# Altium footprint library Connector_Molex.PcbLib: 815 footprints (part 21 of 51)
Each footprint in its own frame and in the unit in brackets; x right, y up, seen from the top. Pads: shape width x height; smd on the part's side, far side on the other; paste and mask are expansions set on the pad; w line width, h text height; cw(c..) or ccw(c..) is an arc to the next point about the centre after c.
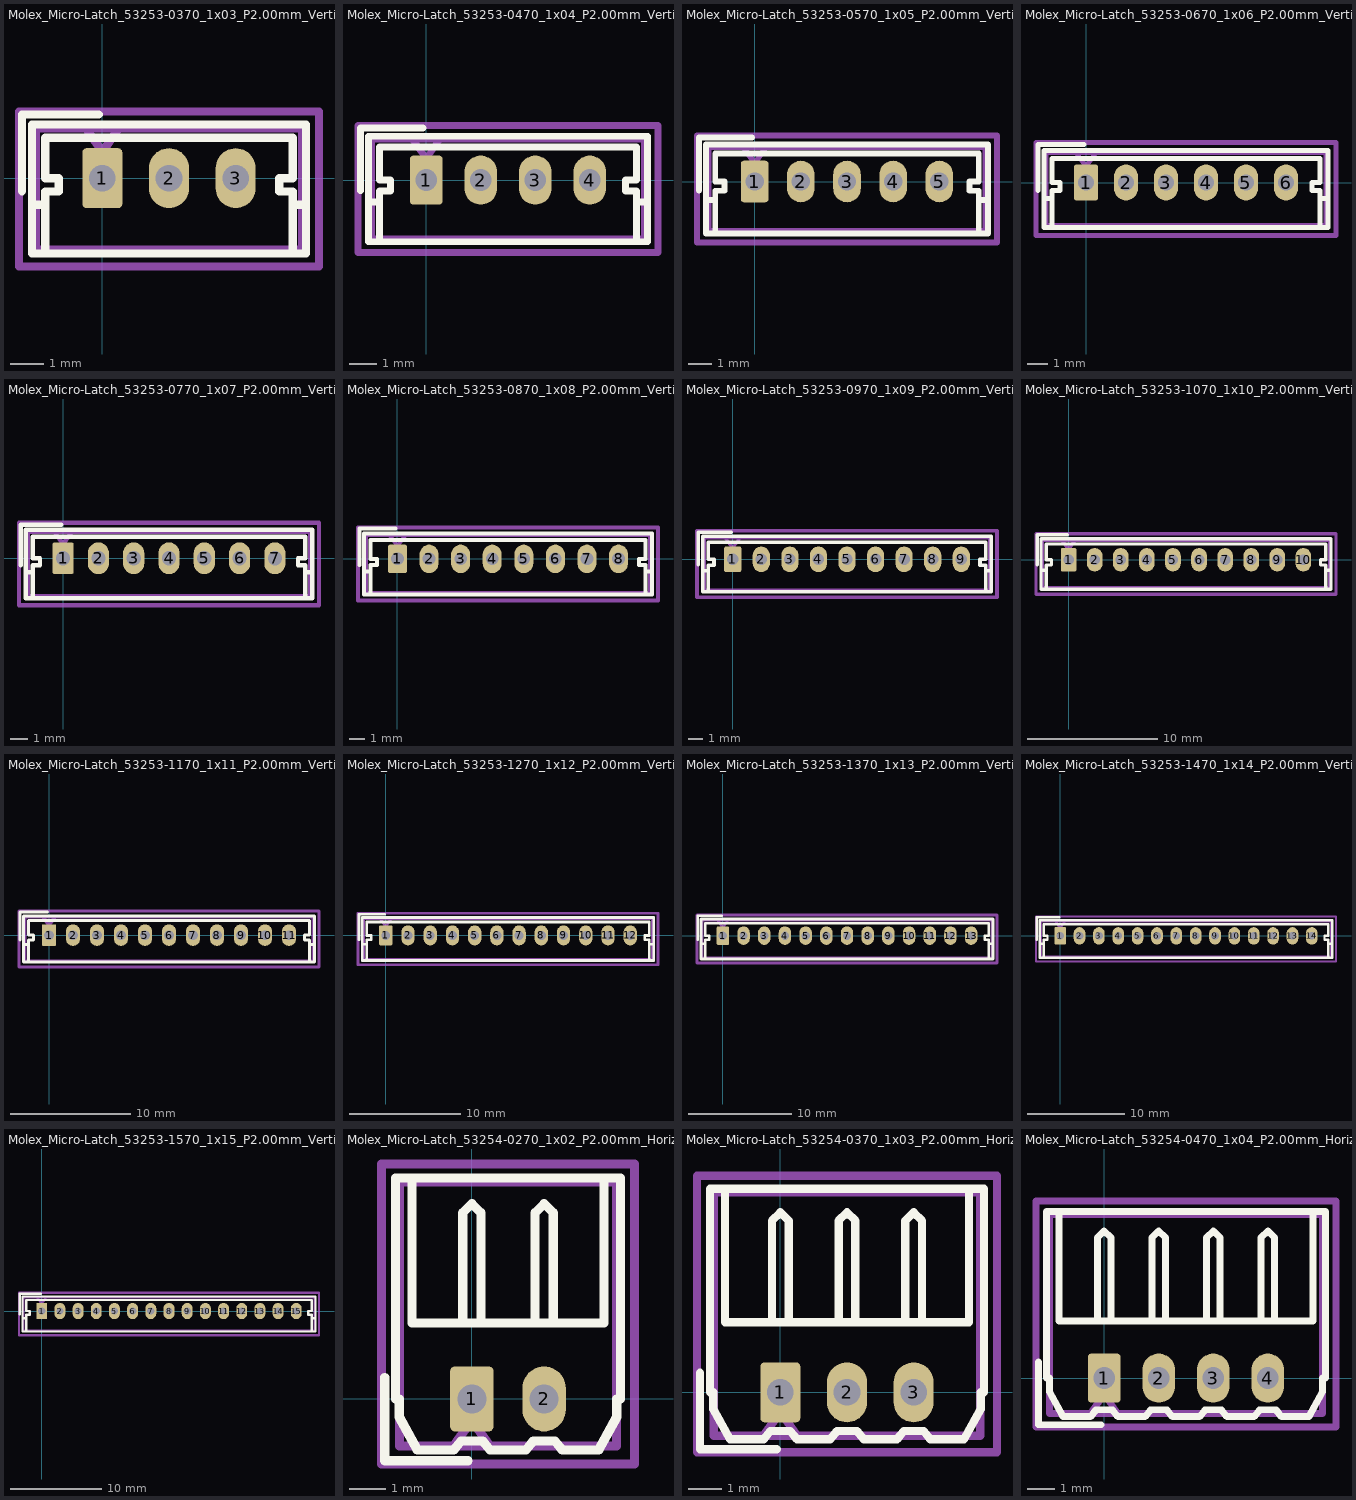
[diagram p20: the footprints below, top view; thin cyan lines are the x and y axes]

## Molex_Micro-Latch_53253-0370_1x03_P2.00mm_Vertical [mm]
pads (3):
  rrect21% 1.2x1.8 hole 0.8: 1(0,0)
  rrect100% 1.2x1.8 hole 0.8: 2(2,0) 3(4,0)
F.SilkS:
  lines w0.254: -2.41,-0.39 -2.41,1.91 -0.11,1.91 ; -2.11,-0.8 -1.71,-0.8 ; -1.71,-2.26 -1.71,-0.4 -1.31,-0.4 -1.31,0 -1.71,0 -1.71,1.21 2,1.21 5.71,1.21 5.71,0 5.31,0 5.31,-0.4 5.71,-0.4 5.71,-2.26 ; 5.71,-0.8 6.11,-0.8 ; -2.11,-2.26 6.11,-2.26 6.11,1.61 -2.11,1.61 -2.11,-2.26
Top Assembly:
  lines w0.254: -0.5,1.5 0,0.793 0.5,1.5 ; -2,-2.15 6,-2.15 6,1.5 -2,1.5 -2,-2.15
  text "'.Designator'" at -2.047,-2.29 h1
Top Courtyard:
  lines w0.254: -2.5,-2.65 6.5,-2.65 6.5,2 -2.5,2 -2.5,-2.65
Top Designator:
  text ".Designator" at -5.618,-0.833 h1.52

## Molex_Micro-Latch_53253-0470_1x04_P2.00mm_Vertical [mm]
pads (4):
  rrect21% 1.2x1.8 hole 0.8: 1(0,0)
  rrect100% 1.2x1.8 hole 0.8: 2(2,0) 3(4,0) 4(6,0)
F.SilkS:
  lines w0.254: -2.41,-0.39 -2.41,1.91 -0.11,1.91 ; -2.11,-0.8 -1.71,-0.8 ; -1.71,-2.26 -1.71,-0.4 -1.31,-0.4 -1.31,0 -1.71,0 -1.71,1.21 3,1.21 7.71,1.21 7.71,0 7.31,0 7.31,-0.4 7.71,-0.4 7.71,-2.26 ; 7.71,-0.8 8.11,-0.8 ; -2.11,-2.26 8.11,-2.26 8.11,1.61 -2.11,1.61 -2.11,-2.26
Top Assembly:
  lines w0.254: -0.5,1.5 0,0.793 0.5,1.5 ; -2,-2.15 8,-2.15 8,1.5 -2,1.5 -2,-2.15
  text "'.Designator'" at -1.047,-2.29 h1
Top Courtyard:
  lines w0.254: -2.5,-2.65 8.5,-2.65 8.5,2 -2.5,2 -2.5,-2.65
Top Designator:
  text ".Designator" at -4.618,-0.833 h1.52

## Molex_Micro-Latch_53253-0570_1x05_P2.00mm_Vertical [mm]
pads (5):
  rrect21% 1.2x1.8 hole 0.8: 1(0,0)
  rrect100% 1.2x1.8 hole 0.8: 2(2,0) 3(4,0) 4(6,0) 5(8,0)
F.SilkS:
  lines w0.254: -2.41,-0.39 -2.41,1.91 -0.11,1.91 ; -2.11,-0.8 -1.71,-0.8 ; -1.71,-2.26 -1.71,-0.4 -1.31,-0.4 -1.31,0 -1.71,0 -1.71,1.21 4,1.21 9.71,1.21 9.71,0 9.31,0 9.31,-0.4 9.71,-0.4 9.71,-2.26 ; 9.71,-0.8 10.11,-0.8 ; -2.11,-2.26 10.11,-2.26 10.11,1.61 -2.11,1.61 -2.11,-2.26
Top Assembly:
  lines w0.254: -0.5,1.5 0,0.793 0.5,1.5 ; -2,-2.15 10,-2.15 10,1.5 -2,1.5 -2,-2.15
  text "'.Designator'" at -0.047,-2.29 h1
Top Courtyard:
  lines w0.254: -2.5,-2.65 10.5,-2.65 10.5,2 -2.5,2 -2.5,-2.65
Top Designator:
  text ".Designator" at -3.618,-0.833 h1.52

## Molex_Micro-Latch_53253-0670_1x06_P2.00mm_Vertical [mm]
pads (6):
  rrect21% 1.2x1.8 hole 0.8: 1(0,0)
  rrect100% 1.2x1.8 hole 0.8: 2(2,0) 3(4,0) 4(6,0) 5(8,0) 6(10,0)
F.SilkS:
  lines w0.254: -2.41,-0.39 -2.41,1.91 -0.11,1.91 ; -2.11,-0.8 -1.71,-0.8 ; -1.71,-2.26 -1.71,-0.4 -1.31,-0.4 -1.31,0 -1.71,0 -1.71,1.21 5,1.21 11.71,1.21 11.71,0 11.31,0 11.31,-0.4 11.71,-0.4 11.71,-2.26 ; 11.71,-0.8 12.11,-0.8 ; -2.11,-2.26 12.11,-2.26 12.11,1.61 -2.11,1.61 -2.11,-2.26
Top Assembly:
  lines w0.254: -0.5,1.5 0,0.793 0.5,1.5 ; -2,-2.15 12,-2.15 12,1.5 -2,1.5 -2,-2.15
  text "'.Designator'" at 0.953,-2.29 h1
Top Courtyard:
  lines w0.254: -2.5,-2.65 12.5,-2.65 12.5,2 -2.5,2 -2.5,-2.65
Top Designator:
  text ".Designator" at -2.618,-0.833 h1.52

## Molex_Micro-Latch_53253-0770_1x07_P2.00mm_Vertical [mm]
pads (7):
  rrect21% 1.2x1.8 hole 0.8: 1(0,0)
  rrect100% 1.2x1.8 hole 0.8: 2(2,0) 3(4,0) 4(6,0) 5(8,0) 6(10,0) 7(12,0)
F.SilkS:
  lines w0.254: -2.41,-0.39 -2.41,1.91 -0.11,1.91 ; -2.11,-0.8 -1.71,-0.8 ; -1.71,-2.26 -1.71,-0.4 -1.31,-0.4 -1.31,0 -1.71,0 -1.71,1.21 6,1.21 13.71,1.21 13.71,0 13.31,0 13.31,-0.4 13.71,-0.4 13.71,-2.26 ; 13.71,-0.8 14.11,-0.8 ; -2.11,-2.26 14.11,-2.26 14.11,1.61 -2.11,1.61 -2.11,-2.26
Top Assembly:
  lines w0.254: -0.5,1.5 0,0.793 0.5,1.5 ; -2,-2.15 14,-2.15 14,1.5 -2,1.5 -2,-2.15
  text "'.Designator'" at 1.953,-2.29 h1
Top Courtyard:
  lines w0.254: -2.5,-2.65 14.5,-2.65 14.5,2 -2.5,2 -2.5,-2.65
Top Designator:
  text ".Designator" at -1.618,-0.833 h1.52

## Molex_Micro-Latch_53253-0870_1x08_P2.00mm_Vertical [mm]
pads (8):
  rrect21% 1.2x1.8 hole 0.8: 1(0,0)
  rrect100% 1.2x1.8 hole 0.8: 2(2,0) 3(4,0) 4(6,0) 5(8,0) 6(10,0) 7(12,0) 8(14,0)
F.SilkS:
  lines w0.254: -2.41,-0.39 -2.41,1.91 -0.11,1.91 ; -2.11,-0.8 -1.71,-0.8 ; -1.71,-2.26 -1.71,-0.4 -1.31,-0.4 -1.31,0 -1.71,0 -1.71,1.21 7,1.21 15.71,1.21 15.71,0 15.31,0 15.31,-0.4 15.71,-0.4 15.71,-2.26 ; 15.71,-0.8 16.11,-0.8 ; -2.11,-2.26 16.11,-2.26 16.11,1.61 -2.11,1.61 -2.11,-2.26
Top Assembly:
  lines w0.254: -0.5,1.5 0,0.793 0.5,1.5 ; -2,-2.15 16,-2.15 16,1.5 -2,1.5 -2,-2.15
  text "'.Designator'" at 2.953,-2.29 h1
Top Courtyard:
  lines w0.254: -2.5,-2.65 16.5,-2.65 16.5,2 -2.5,2 -2.5,-2.65
Top Designator:
  text ".Designator" at -0.618,-0.833 h1.52

## Molex_Micro-Latch_53253-0970_1x09_P2.00mm_Vertical [mm]
pads (9):
  rrect21% 1.2x1.8 hole 0.8: 1(0,0)
  rrect100% 1.2x1.8 hole 0.8: 2(2,0) 3(4,0) 4(6,0) 5(8,0) 6(10,0) 7(12,0) 8(14,0) 9(16,0)
F.SilkS:
  lines w0.254: -2.41,-0.39 -2.41,1.91 -0.11,1.91 ; -2.11,-0.8 -1.71,-0.8 ; -1.71,-2.26 -1.71,-0.4 -1.31,-0.4 -1.31,0 -1.71,0 -1.71,1.21 8,1.21 17.71,1.21 17.71,0 17.31,0 17.31,-0.4 17.71,-0.4 17.71,-2.26 ; 17.71,-0.8 18.11,-0.8 ; -2.11,-2.26 18.11,-2.26 18.11,1.61 -2.11,1.61 -2.11,-2.26
Top Assembly:
  lines w0.254: -0.5,1.5 0,0.793 0.5,1.5 ; -2,-2.15 18,-2.15 18,1.5 -2,1.5 -2,-2.15
  text "'.Designator'" at 3.953,-2.29 h1
Top Courtyard:
  lines w0.254: -2.5,-2.65 18.5,-2.65 18.5,2 -2.5,2 -2.5,-2.65
Top Designator:
  text ".Designator" at 0.382,-0.833 h1.52

## Molex_Micro-Latch_53253-1070_1x10_P2.00mm_Vertical [mm]
pads (10):
  rrect21% 1.2x1.8 hole 0.8: 1(0,0)
  rrect100% 1.2x1.8 hole 0.8: 2(2,0) 3(4,0) 4(6,0) 5(8,0) 6(10,0) 7(12,0) 8(14,0) 9(16,0) 10(18,0)
F.SilkS:
  lines w0.254: -2.41,-0.39 -2.41,1.91 -0.11,1.91 ; -2.11,-0.8 -1.71,-0.8 ; -1.71,-2.26 -1.71,-0.4 -1.31,-0.4 -1.31,0 -1.71,0 -1.71,1.21 9,1.21 19.71,1.21 19.71,0 19.31,0 19.31,-0.4 19.71,-0.4 19.71,-2.26 ; 19.71,-0.8 20.11,-0.8 ; -2.11,-2.26 20.11,-2.26 20.11,1.61 -2.11,1.61 -2.11,-2.26
Top Assembly:
  lines w0.254: -0.5,1.5 0,0.793 0.5,1.5 ; -2,-2.15 20,-2.15 20,1.5 -2,1.5 -2,-2.15
  text "'.Designator'" at 4.953,-2.29 h1
Top Courtyard:
  lines w0.254: -2.5,-2.65 20.5,-2.65 20.5,2 -2.5,2 -2.5,-2.65
Top Designator:
  text ".Designator" at 1.382,-0.833 h1.52

## Molex_Micro-Latch_53253-1170_1x11_P2.00mm_Vertical [mm]
pads (11):
  rrect21% 1.2x1.8 hole 0.8: 1(0,0)
  rrect100% 1.2x1.8 hole 0.8: 2(2,0) 3(4,0) 4(6,0) 5(8,0) 6(10,0) 7(12,0) 8(14,0) 9(16,0) 10(18,0) 11(20,0)
F.SilkS:
  lines w0.254: -2.41,-0.39 -2.41,1.91 -0.11,1.91 ; -2.11,-0.8 -1.71,-0.8 ; -1.71,-2.26 -1.71,-0.4 -1.31,-0.4 -1.31,0 -1.71,0 -1.71,1.21 10,1.21 21.71,1.21 21.71,0 21.31,0 21.31,-0.4 21.71,-0.4 21.71,-2.26 ; 21.71,-0.8 22.11,-0.8 ; -2.11,-2.26 22.11,-2.26 22.11,1.61 -2.11,1.61 -2.11,-2.26
Top Assembly:
  lines w0.254: -0.5,1.5 0,0.793 0.5,1.5 ; -2,-2.15 22,-2.15 22,1.5 -2,1.5 -2,-2.15
  text "'.Designator'" at 5.953,-2.29 h1
Top Courtyard:
  lines w0.254: -2.5,-2.65 22.5,-2.65 22.5,2 -2.5,2 -2.5,-2.65
Top Designator:
  text ".Designator" at 2.382,-0.833 h1.52

## Molex_Micro-Latch_53253-1270_1x12_P2.00mm_Vertical [mm]
pads (12):
  rrect21% 1.2x1.8 hole 0.8: 1(0,0)
  rrect100% 1.2x1.8 hole 0.8: 2(2,0) 3(4,0) 4(6,0) 5(8,0) 6(10,0) 7(12,0) 8(14,0) 9(16,0) 10(18,0) 11(20,0) 12(22,0)
F.SilkS:
  lines w0.254: -2.41,-0.39 -2.41,1.91 -0.11,1.91 ; -2.11,-0.8 -1.71,-0.8 ; -1.71,-2.26 -1.71,-0.4 -1.31,-0.4 -1.31,0 -1.71,0 -1.71,1.21 11,1.21 23.71,1.21 23.71,0 23.31,0 23.31,-0.4 23.71,-0.4 23.71,-2.26 ; 23.71,-0.8 24.11,-0.8 ; -2.11,-2.26 24.11,-2.26 24.11,1.61 -2.11,1.61 -2.11,-2.26
Top Assembly:
  lines w0.254: -0.5,1.5 0,0.793 0.5,1.5 ; -2,-2.15 24,-2.15 24,1.5 -2,1.5 -2,-2.15
  text "'.Designator'" at 6.953,-2.29 h1
Top Courtyard:
  lines w0.254: -2.5,-2.65 24.5,-2.65 24.5,2 -2.5,2 -2.5,-2.65
Top Designator:
  text ".Designator" at 3.382,-0.833 h1.52

## Molex_Micro-Latch_53253-1370_1x13_P2.00mm_Vertical [mm]
pads (13):
  rrect21% 1.2x1.8 hole 0.8: 1(0,0)
  rrect100% 1.2x1.8 hole 0.8: 2(2,0) 3(4,0) 4(6,0) 5(8,0) 6(10,0) 7(12,0) 8(14,0) 9(16,0) 10(18,0) 11(20,0) 12(22,0) 13(24,0)
F.SilkS:
  lines w0.254: -2.41,-0.39 -2.41,1.91 -0.11,1.91 ; -2.11,-0.8 -1.71,-0.8 ; -1.71,-2.26 -1.71,-0.4 -1.31,-0.4 -1.31,0 -1.71,0 -1.71,1.21 12,1.21 25.71,1.21 25.71,0 25.31,0 25.31,-0.4 25.71,-0.4 25.71,-2.26 ; 25.71,-0.8 26.11,-0.8 ; -2.11,-2.26 26.11,-2.26 26.11,1.61 -2.11,1.61 -2.11,-2.26
Top Assembly:
  lines w0.254: -0.5,1.5 0,0.793 0.5,1.5 ; -2,-2.15 26,-2.15 26,1.5 -2,1.5 -2,-2.15
  text "'.Designator'" at 7.953,-2.29 h1
Top Courtyard:
  lines w0.254: -2.5,-2.65 26.5,-2.65 26.5,2 -2.5,2 -2.5,-2.65
Top Designator:
  text ".Designator" at 4.382,-0.833 h1.52

## Molex_Micro-Latch_53253-1470_1x14_P2.00mm_Vertical [mm]
pads (14):
  rrect21% 1.2x1.8 hole 0.8: 1(0,0)
  rrect100% 1.2x1.8 hole 0.8: 2(2,0) 3(4,0) 4(6,0) 5(8,0) 6(10,0) 7(12,0) 8(14,0) 9(16,0) 10(18,0) 11(20,0) 12(22,0) 13(24,0) 14(26,0)
F.SilkS:
  lines w0.254: -2.41,-0.39 -2.41,1.91 -0.11,1.91 ; -2.11,-0.8 -1.71,-0.8 ; -1.71,-2.26 -1.71,-0.4 -1.31,-0.4 -1.31,0 -1.71,0 -1.71,1.21 13,1.21 27.71,1.21 27.71,0 27.31,0 27.31,-0.4 27.71,-0.4 27.71,-2.26 ; 27.71,-0.8 28.11,-0.8 ; -2.11,-2.26 28.11,-2.26 28.11,1.61 -2.11,1.61 -2.11,-2.26
Top Assembly:
  lines w0.254: -0.5,1.5 0,0.793 0.5,1.5 ; -2,-2.15 28,-2.15 28,1.5 -2,1.5 -2,-2.15
  text "'.Designator'" at 8.953,-2.29 h1
Top Courtyard:
  lines w0.254: -2.5,-2.65 28.5,-2.65 28.5,2 -2.5,2 -2.5,-2.65
Top Designator:
  text ".Designator" at 5.382,-0.833 h1.52

## Molex_Micro-Latch_53253-1570_1x15_P2.00mm_Vertical [mm]
pads (15):
  rrect21% 1.2x1.8 hole 0.8: 1(0,0)
  rrect100% 1.2x1.8 hole 0.8: 2(2,0) 3(4,0) 4(6,0) 5(8,0) 6(10,0) 7(12,0) 8(14,0) 9(16,0) 10(18,0) 11(20,0) 12(22,0) 13(24,0) 14(26,0) 15(28,0)
F.SilkS:
  lines w0.254: -2.41,-0.39 -2.41,1.91 -0.11,1.91 ; -2.11,-0.8 -1.71,-0.8 ; -1.71,-2.26 -1.71,-0.4 -1.31,-0.4 -1.31,0 -1.71,0 -1.71,1.21 14,1.21 29.71,1.21 29.71,0 29.31,0 29.31,-0.4 29.71,-0.4 29.71,-2.26 ; 29.71,-0.8 30.11,-0.8 ; -2.11,-2.26 30.11,-2.26 30.11,1.61 -2.11,1.61 -2.11,-2.26
Top Assembly:
  lines w0.254: -0.5,1.5 0,0.793 0.5,1.5 ; -2,-2.15 30,-2.15 30,1.5 -2,1.5 -2,-2.15
  text "'.Designator'" at 9.953,-2.29 h1
Top Courtyard:
  lines w0.254: -2.5,-2.65 30.5,-2.65 30.5,2 -2.5,2 -2.5,-2.65
Top Designator:
  text ".Designator" at 6.382,-0.833 h1.52

## Molex_Micro-Latch_53254-0270_1x02_P2.00mm_Horizontal [mm]
pads (2):
  rrect21% 1.2x1.8 hole 0.8: 1(0,0)
  rrect100% 1.2x1.8 hole 0.8: 2(2,0)
F.SilkS:
  lines w0.254: -2.41,0.59 -2.41,-1.71 -0.11,-1.71 ; -1.66,6.11 -1.66,2.1 3.66,2.1 3.66,6.11 ; -0.25,2.1 -0.25,5.15 0,5.4 0.25,5.15 0.25,2.1 ; 1.75,2.1 1.75,5.15 2,5.4 2.25,5.15 2.25,2.1 ; -2.11,0 -2.01,0 -2.01,-0.5 -1.51,-1.41 -0.5,-1.41 -0.3,-1.16 0.3,-1.16 0.5,-1.41 1.5,-1.41 1.7,-1.16 2.3,-1.16 2.5,-1.41 3.51,-1.41 4.01,-0.5 4.01,0 4.11,0 4.11,6.11 1,6.11 -2.11,6.11 -2.11,0
Top Assembly:
  lines w0.254: -0.5,-1.3 0,-0.593 0.5,-1.3 ; -2,-1.3 4,-1.3 4,6 -2,6 -2,-1.3
  text "'.Designator'" at -3.047,4.46 h1
Top Courtyard:
  lines w0.254: -2.5,-1.8 4.5,-1.8 4.5,6.5 -2.5,6.5 -2.5,-1.8
Top Designator:
  text ".Designator" at -6.768,1.842 h1.52

## Molex_Micro-Latch_53254-0370_1x03_P2.00mm_Horizontal [mm]
pads (3):
  rrect21% 1.2x1.8 hole 0.8: 1(0,0)
  rrect100% 1.2x1.8 hole 0.8: 2(2,0) 3(4,0)
F.SilkS:
  lines w0.254: -2.41,0.59 -2.41,-1.71 -0.11,-1.71 ; -1.66,6.11 -1.66,2.1 5.66,2.1 5.66,6.11 ; -0.25,2.1 -0.25,5.15 0,5.4 0.25,5.15 0.25,2.1 ; 1.75,2.1 1.75,5.15 2,5.4 2.25,5.15 2.25,2.1 ; 3.75,2.1 3.75,5.15 4,5.4 4.25,5.15 4.25,2.1 ; -2.11,0 -2.01,0 -2.01,-0.5 -1.51,-1.41 -0.5,-1.41 -0.3,-1.16 0.3,-1.16 0.5,-1.41 1.5,-1.41 1.7,-1.16 2.3,-1.16 2.5,-1.41 3.5,-1.41 3.7,-1.16 4.3,-1.16 4.5,-1.41 5.51,-1.41 6.01,-0.5 6.01,0 6.11,0 6.11,6.11 2,6.11 -2.11,6.11 -2.11,0
Top Assembly:
  lines w0.254: -0.5,-1.3 0,-0.593 0.5,-1.3 ; -2,-1.3 6,-1.3 6,6 -2,6 -2,-1.3
  text "'.Designator'" at -2.047,4.46 h1
Top Courtyard:
  lines w0.254: -2.5,-1.8 6.5,-1.8 6.5,6.5 -2.5,6.5 -2.5,-1.8
Top Designator:
  text ".Designator" at -5.618,1.842 h1.52

## Molex_Micro-Latch_53254-0470_1x04_P2.00mm_Horizontal [mm]
pads (4):
  rrect21% 1.2x1.8 hole 0.8: 1(0,0)
  rrect100% 1.2x1.8 hole 0.8: 2(2,0) 3(4,0) 4(6,0)
F.SilkS:
  lines w0.254: -2.41,0.59 -2.41,-1.71 -0.11,-1.71 ; -1.66,6.11 -1.66,2.1 7.66,2.1 7.66,6.11 ; -0.25,2.1 -0.25,5.15 0,5.4 0.25,5.15 0.25,2.1 ; 1.75,2.1 1.75,5.15 2,5.4 2.25,5.15 2.25,2.1 ; 3.75,2.1 3.75,5.15 4,5.4 4.25,5.15 4.25,2.1 ; 5.75,2.1 5.75,5.15 6,5.4 6.25,5.15 6.25,2.1 ; -2.11,0 -2.01,0 -2.01,-0.5 -1.51,-1.41 -0.5,-1.41 -0.3,-1.16 0.3,-1.16 0.5,-1.41 1.5,-1.41 1.7,-1.16 2.3,-1.16 2.5,-1.41 3.5,-1.41 3.7,-1.16 4.3,-1.16 4.5,-1.41 5.5,-1.41 5.7,-1.16 6.3,-1.16 6.5,-1.41 7.51,-1.41 8.01,-0.5 8.01,0 8.11,0 8.11,6.11 3,6.11 -2.11,6.11 -2.11,0
Top Assembly:
  lines w0.254: -0.5,-1.3 0,-0.593 0.5,-1.3 ; -2,-1.3 8,-1.3 8,6 -2,6 -2,-1.3
  text "'.Designator'" at -1.047,4.46 h1
Top Courtyard:
  lines w0.254: -2.5,-1.8 8.5,-1.8 8.5,6.5 -2.5,6.5 -2.5,-1.8
Top Designator:
  text ".Designator" at -4.618,1.842 h1.52